# EAGLE library part 632121300001 (library Wurth_Connectors_WR-USB)
WR-COM USB 3.1 Type C Plug Horizontal 0.8 mm Kind Properties Durability:5 000 Mating cycles Quality Class:5 000 Mating cycles Connector Type:USB Gender:Receptacle Type:Horizontal General Information Operating Temperature:-20up to +85 °C Compliance:RoHS Electrical Properties IR 1:5A Working Voltage:20V (DC) Withstanding Voltage:100V (AC) Contact Resistance:50 mΩ Material Properties Insulator Material:PA9T Insulator Flammability Rating:UL94 V-0 Color:Blue Cover Material:Steel Cover Plating:Matte Tin Contact Material:Copper Alloy Contact Plating:Gold Contact Type:Stamped Shielding Material:Steel Shielding Plating:Matte Tin <https://www.we-online.com/catalog/media/o58978v209%20Family_WR-COM_632121300001_4C.jpg> Details see: https://www.we-online.com/catalog/en/COM_3_1_THT_TYPE_A_RECEPTACLE_HORIZONTAL/ Updated by Ella Wu 2021-09-28 2021 (C) Würth Elektronik
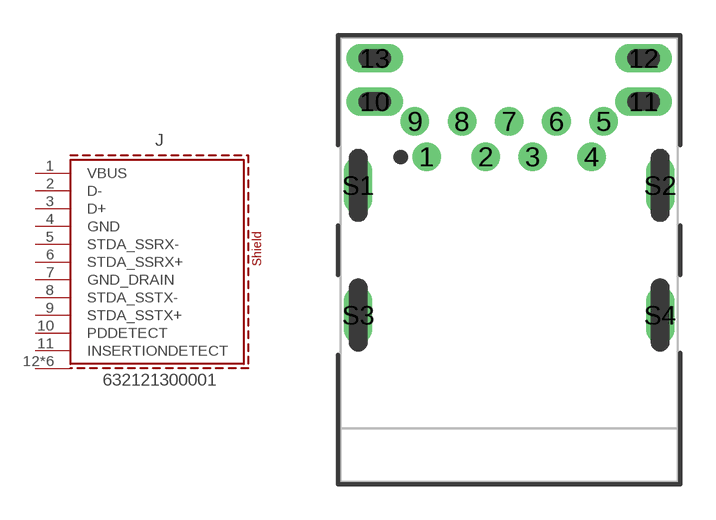
[diagram p25: symbol with the pads of 632121300001; footprint 632121300001]

Designator prefix J

## 632121300001 (APPLICATION: USB 3.1; DATASHEET-URL: https://www.we-online.com/redexpert/spec/632121300001?ae; GERDER: Receptacle; INTERFACE-TYPE: Type A; IR: 5A; MOUNT: THR; PACKAGING: Tray; PART-NUMBER: 632121300001; PINS: 9; TYPE: Horizontal; VALUE: 632121300001; WORKING-VOLTAGE: 20V(DC))  [632121300001]
1  VBUS  pas
2  D-  pas
3  D+  pas
4  GND  pas
5  STDA_SSRX-  pas
6  STDA_SSRX+  pas
7  GND_DRAIN  pas
8  STDA_SSTX-  pas
9  STDA_SSTX+  pas
10  PDDETECT  pas
11  INSERTIONDETECT  pas
12  SHIELD  pas
13  SHIELD  pas
S1  SHIELD  pas
S2  SHIELD  pas
S3  SHIELD  pas
S4  SHIELD  pas

## Footprint 632121300001 (pad centres in mm)
WR-COM USB 3.1 Type A Receptacle Horizontal THT Power Delivery
drill 0.7 pad 1.1: 1 -3.5,4.425; 2 -1,4.425; 3 1,4.425; 4 3.5,4.425; 5 4,5.925; 6 2,5.925; 7 0,5.925; 8 -2,5.925; 9 -4,5.925
drill 0.7 pad 0.85 long: 10 -5.7,6.765; 11 5.7,6.765; 12 5.7,8.605; 13 -5.7,8.605
drill 0.7 pad 1.1 long: S1 -6.4,3.215; S2 6.4,3.215; S3 -6.4,-2.285; S4 6.4,-2.285